# Altium footprint library Nixie_Tube_IN-8.PcbLib: 1 footprints
Each footprint in its own frame and in the unit in brackets; x right, y up, seen from the top. Pads: shape width x height; smd on the part's side, far side on the other; paste and mask are expansions set on the pad; w line width, h text height; cw(c..) or ccw(c..) is an arc to the next point about the centre after c.
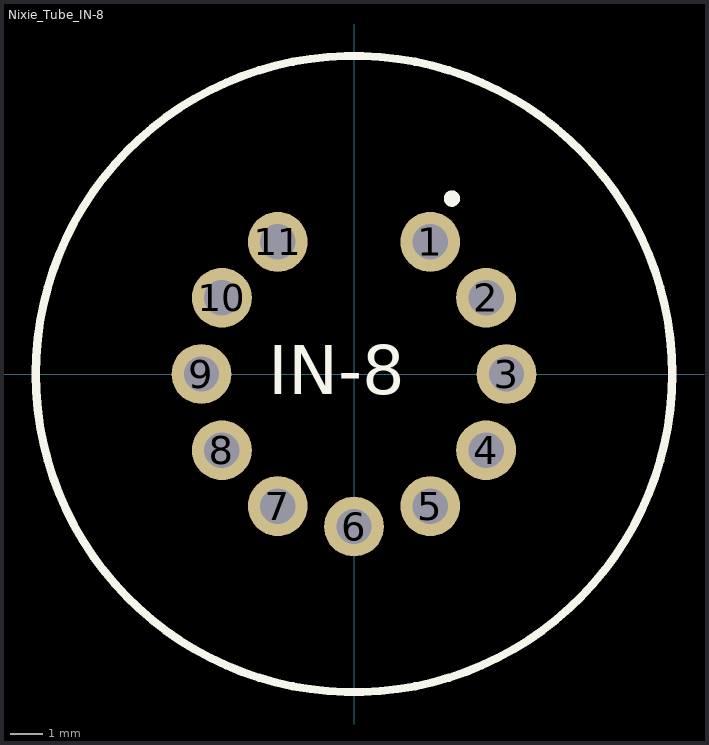
[diagram p0: the footprint, top view; thin cyan lines are the x and y axes]

## Nixie_Tube_IN-8 [mm]
pads (11):
  round 1.862 hole 1.1: 1(2.375,4.114) 2(4.114,2.375) 3(4.75,0) 4(4.114,-2.375) 5(2.375,-4.114) 6(0,-4.75) 7(-2.375,-4.114) 8(-4.114,-2.375) 9(-4.75,0) 10(-4.114,2.375) 11(-2.375,4.114)
Top Overlay:
  circle w0.254: c3.048,5.461 r0.127
  circle w0.254: c0,0 r9.907
  text "IN-8" at -2.667,-0.635 h1.52